# EAGLE library part STM32F103CBT6 (library My_STM32)
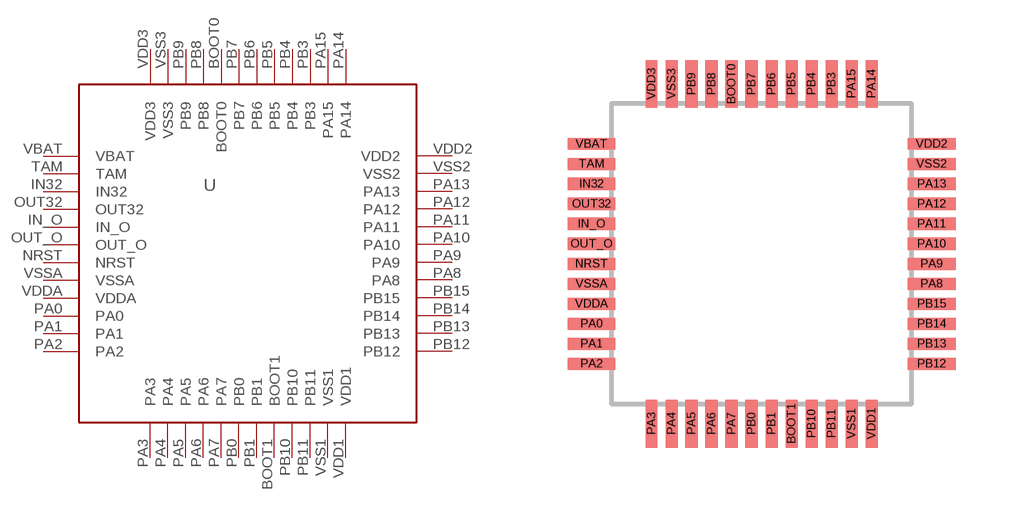
[diagram p1: symbol with the pads of STM32F103CBT6; footprint STM32F103CBT6]

Designator prefix -

## STM32F103CBT6  [STM32F103CBT6]
BOOT0  BOOT0
BOOT1  BOOT1
IN32  IN32
IN_O  IN_O
NRST  NRST
OUT32  OUT32
OUT_O  OUT_O
PA0  PA0
PA1  PA1
PA2  PA2
PA3  PA3
PA4  PA4
PA5  PA5
PA6  PA6
PA7  PA7
PA8  PA8
PA9  PA9
PA10  PA10
PA11  PA11
PA12  PA12
PA13  PA13
PA14  PA14
PA15  PA15
PB0  PB0
PB1  PB1
PB3  PB3
PB4  PB4
PB5  PB5
PB6  PB6
PB7  PB7
PB8  PB8
PB9  PB9
PB10  PB10
PB11  PB11
PB12  PB12
PB13  PB13
PB14  PB14
PB15  PB15
TAM  TAM
VBAT  VBAT
VDD1  VDD1
VDD2  VDD2
VDD3  VDD3
VDDA  VDDA
VSS1  VSS1
VSS2  VSS2
VSS3  VSS3
VSSA  VSSA

## Footprint STM32F103CBT6 (pad centres in mm)
smd 0.3 x 1.2: BOOT0 -0.75,4.25; BOOT1 0.75,-4.25; PA3 -2.75,-4.25; PA4 -2.25,-4.25; PA5 -1.75,-4.25; PA6 -1.25,-4.25; PA7 -0.75,-4.25; PA14 2.75,4.25; PA15 2.25,4.25; PB0 -0.25,-4.25; PB1 0.25,-4.25; PB3 1.75,4.25; PB4 1.25,4.25; PB5 0.75,4.25; PB6 0.25,4.25; PB7 -0.25,4.25; PB8 -1.25,4.25; PB9 -1.75,4.25; PB10 1.25,-4.25; PB11 1.75,-4.25; VDD1 2.75,-4.25; VDD3 -2.75,4.25; VSS1 2.25,-4.25; VSS3 -2.25,4.25
smd 1.2 x 0.3: IN32 -4.25,1.75; IN_O -4.25,0.75; NRST -4.25,-0.25; OUT32 -4.25,1.25; OUT_O -4.25,0.25; PA0 -4.25,-1.75; PA1 -4.25,-2.25; PA2 -4.25,-2.75; PA8 4.25,-0.75; PA9 4.25,-0.25; PA10 4.25,0.25; PA11 4.25,0.75; PA12 4.25,1.25; PA13 4.25,1.75; PB12 4.25,-2.75; PB13 4.25,-2.25; PB14 4.25,-1.75; PB15 4.25,-1.25; TAM -4.25,2.25; VBAT -4.25,2.75; VDD2 4.25,2.75; VDDA -4.25,-1.25; VSS2 4.25,2.25; VSSA -4.25,-0.75